# EAGLE library part CONN-NES-CARTRIDGE (library nintendo)
72-pin NES cartridge connector
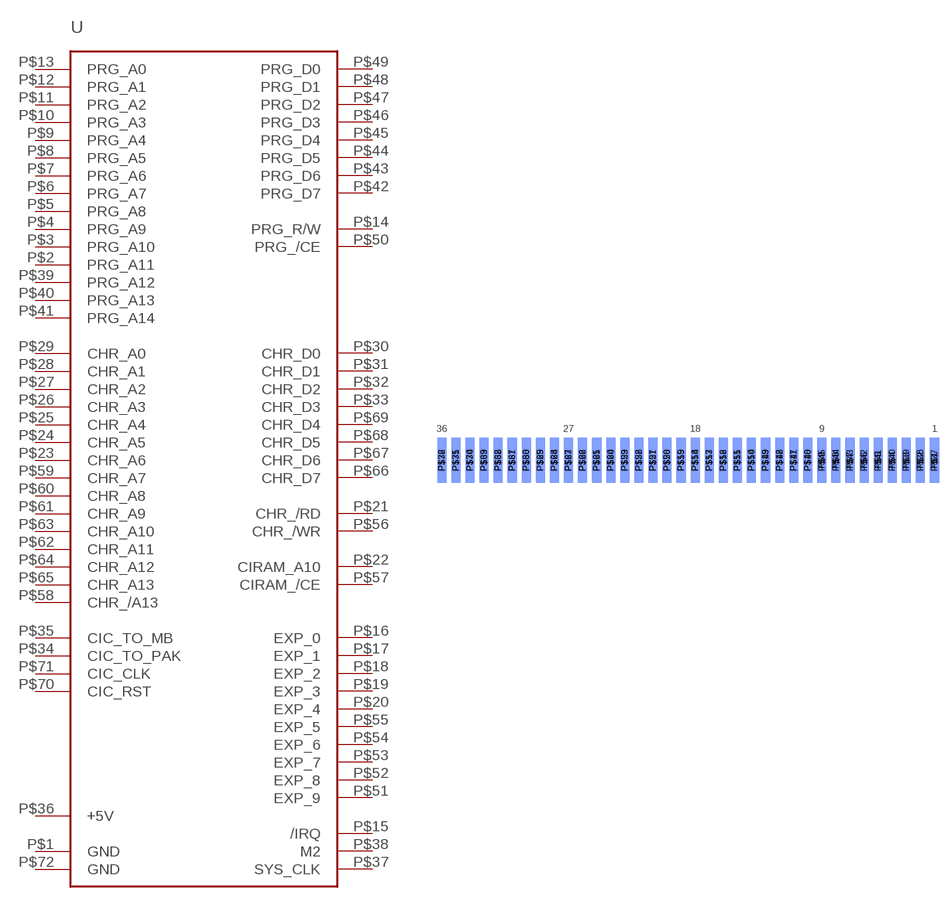
[diagram p0: symbol with the pads of CONN-NES-CARTRIDGE; footprint CONN-NES-CARTRIDGE]

Designator prefix -

## CONN-NES-CARTRIDGE  [CONN-NES-CARTRIDGE]
P$1  GND
P$2  PRG_A11
P$3  PRG_A10
P$4  PRG_A9
P$5  PRG_A8
P$6  PRG_A7
P$7  PRG_A6
P$8  PRG_A5
P$9  PRG_A4
P$10  PRG_A3
P$11  PRG_A2
P$12  PRG_A1
P$13  PRG_A0
P$14  PRG_R/W
P$15  /IRQ
P$16  EXP_0
P$17  EXP_1
P$18  EXP_2
P$19  EXP_3
P$20  EXP_4
P$21  CHR_/RD
P$22  CIRAM_A10
P$23  CHR_A6
P$24  CHR_A5
P$25  CHR_A4
P$26  CHR_A3
P$27  CHR_A2
P$28  CHR_A1
P$29  CHR_A0
P$30  CHR_D0
P$31  CHR_D1
P$32  CHR_D2
P$33  CHR_D3
P$34  CIC_TO_PAK
P$35  CIC_TO_MB
P$36  +5V
P$37  SYS_CLK
P$38  M2
P$39  PRG_A12
P$40  PRG_A13
P$41  PRG_A14
P$42  PRG_D7
P$43  PRG_D6
P$44  PRG_D5
P$45  PRG_D4
P$46  PRG_D3
P$47  PRG_D2
P$48  PRG_D1
P$49  PRG_D0
P$50  PRG_/CE
P$51  EXP_9
P$52  EXP_8
P$53  EXP_7
P$54  EXP_6
P$55  EXP_5
P$56  CHR_/WR
P$57  CIRAM_/CE
P$58  CHR_/A13
P$59  CHR_A7
P$60  CHR_A8
P$61  CHR_A9
P$62  CHR_A11
P$63  CHR_A10
P$64  CHR_A12
P$65  CHR_A13
P$66  CHR_D7
P$67  CHR_D6
P$68  CHR_D5
P$69  CHR_D4
P$70  CIC_RST
P$71  CIC_CLK
P$72  GND

## Footprint CONN-NES-CARTRIDGE (pad centres in mm)
72-pin NES cartridge connector
smd 1.618 x 8: P$1 43.75,0; P$2 41.25,0; P$3 38.75,0; P$4 36.25,0; P$5 33.75,0; P$6 31.25,0; P$7 28.75,0; P$8 26.25,0; P$9 23.75,0; P$10 21.25,0; P$11 18.75,0; P$12 16.25,0; P$13 13.75,0; P$14 11.25,0; P$15 8.75,0; P$16 6.25,0; P$17 3.75,0; P$18 1.25,0; P$19 -1.25,0; P$20 -3.75,0; P$21 -6.25,0; P$22 -8.75,0; P$23 -11.25,0; P$24 -13.75,0; P$25 -16.25,0; P$26 -18.75,0; P$27 -21.25,0; P$28 -23.75,0; P$29 -26.25,0; P$30 -28.75,0; P$31 -31.25,0; P$32 -33.75,0; P$33 -36.25,0; P$34 -38.75,0; P$35 -41.25,0; P$36 -43.75,0
smd 1.618 x 8 bottom: P$37 43.75,0; P$38 41.25,0; P$39 38.75,0; P$40 36.25,0; P$41 33.75,0; P$42 31.25,0; P$43 28.75,0; P$44 26.25,0; P$45 23.75,0; P$46 21.25,0; P$47 18.75,0; P$48 16.25,0; P$49 13.75,0; P$50 11.25,0; P$51 8.75,0; P$52 6.25,0; P$53 3.75,0; P$54 1.25,0; P$55 -1.25,0; P$56 -3.75,0; P$57 -6.25,0; P$58 -8.75,0; P$59 -11.25,0; P$60 -13.75,0; P$61 -16.25,0; P$62 -18.75,0; P$63 -21.25,0; P$64 -23.75,0; P$65 -26.25,0; P$66 -28.75,0; P$67 -31.25,0; P$68 -33.75,0; P$69 -36.25,0; P$70 -38.75,0; P$71 -41.25,0; P$72 -43.75,0